# EAGLE library part MOBILEEYE-12 (library comma.ai)
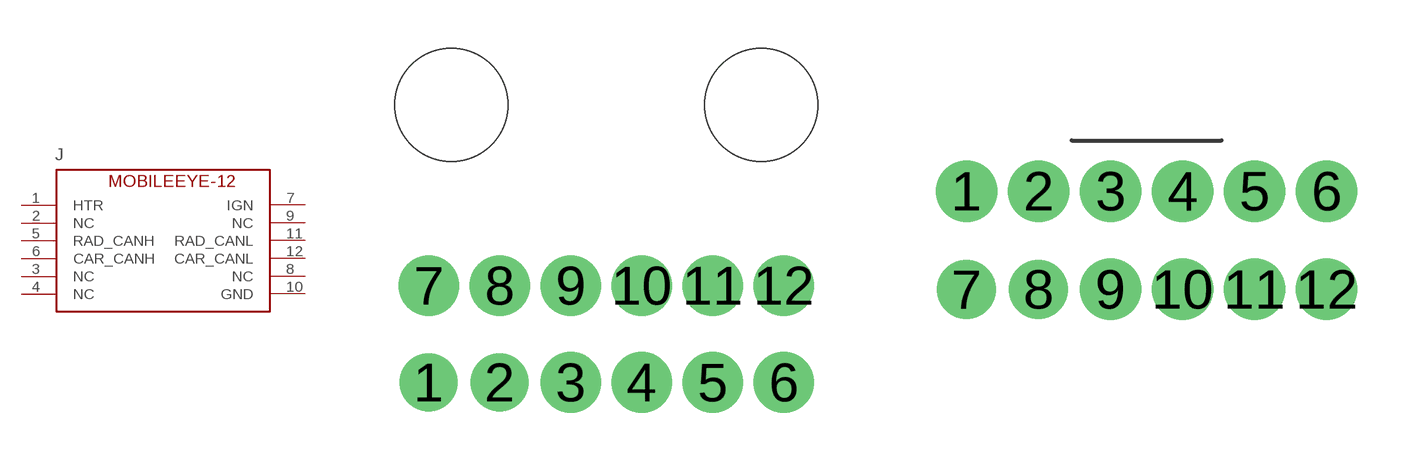
[diagram p38: symbol with the pads of 2X6-TE-RA; footprints 2X6-TE-RA, 2X6-TE-FEMALE]

Designator prefix J

## MOBILEEYE-12MALE  [2X6-TE-RA]
1  HTR
2  NC
3  NC
4  NC
5  RAD_CANH
6  CAR_CANH
7  IGN
8  NC
9  NC
10  GND
11  RAD_CANL
12  CAR_CANL

## MOBILEEYE-12FEMALE  [2X6-TE-FEMALE]
1  HTR
2  NC
3  NC
4  NC
5  RAD_CANH
6  CAR_CANH
7  IGN
8  NC
9  NC
10  GND
11  RAD_CANL
12  CAR_CANL

## Footprint 2X6-TE-RA (pad centres in mm)
drill 1.2: 1 -5.5,-1.5; 2 -3.3,-1.5
drill 1.25: 3 -1.1,-1.5; 4 1.1,-1.5; 5 3.3,-1.5; 6 5.5,-1.5; 7 -5.5,1.5; 8 -3.3,1.5; 9 -1.1,1.5; 10 1.1,1.5; 11 3.3,1.5; 12 5.5,1.5
hole 3.5 at -4.8,7.1
hole 3.5 at 4.8,7.1

## Footprint 2X6-TE-FEMALE (pad centres in mm)
drill 1.25: 1 -5.5,1.5; 2 -3.3,1.5; 3 -1.1,1.5; 4 1.1,1.5; 5 3.3,1.5; 6 5.5,1.5; 9 -1.1,-1.5; 10 1.1,-1.5; 11 3.3,-1.5; 12 5.5,-1.5
drill 1.2: 7 -5.5,-1.5; 8 -3.3,-1.5